# Altium footprint library SnapEDApcb.PcbLib: 1 footprints
Each footprint in its own frame and in the unit in brackets; x right, y up, seen from the top. Pads: shape width x height; smd on the part's side, far side on the other; paste and mask are expansions set on the pad; w line width, h text height; cw(c..) or ccw(c..) is an arc to the next point about the centre after c.
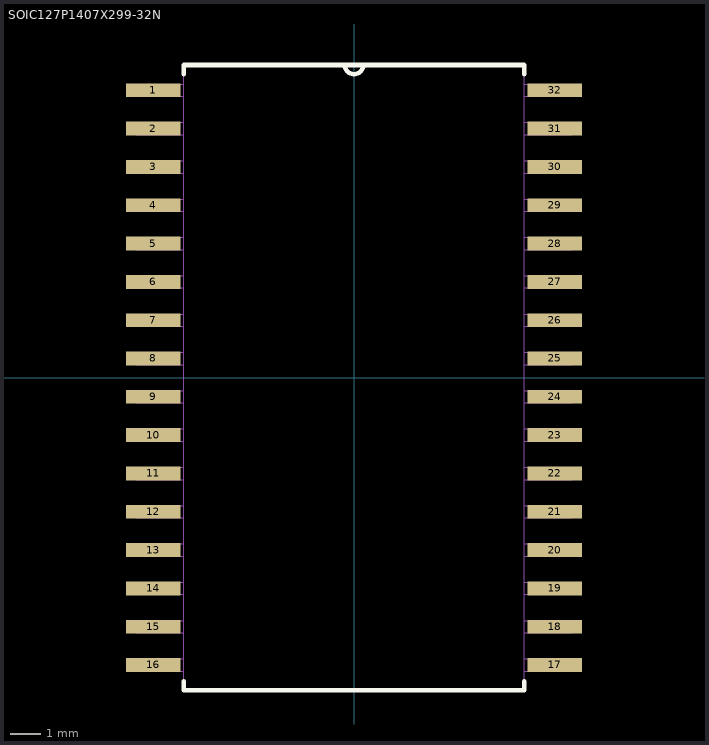
[diagram p0: the footprint, top view; thin cyan lines are the x and y axes]

## SOIC127P1407X299-32N [mil]
pads (32):
  rect 71x18 smd: 1(-262,375) 2(-262,325) 3(-262,275) 4(-262,225) 5(-262,175) 6(-262,125) 7(-262,75) 8(-262,25) 9(-262,-25) 10(-262,-75) 11(-262,-125) 12(-262,-175) 13(-262,-225) 14(-262,-275) 15(-262,-325) 16(-262,-375) 17(262,-375) 18(262,-325) 19(262,-275) 20(262,-225) 21(262,-175) 22(262,-125) 23(262,-75) 24(262,-25) 25(262,25) 26(262,75) 27(262,125) 28(262,175) 29(262,225) 30(262,275) 31(262,325) 32(262,375)
Top Overlay:
  lines w6: -222,-396 -222,-408 222,-408 222,-396 ; -222,396 -222,408 -12,408 ; 222,396 222,408 12,408 ; -12,408 ccw(c0,408) 12,408 ; -12,408 12,408
Mechanical 13:
  lines w0: -12,408 ccw(c0,408) 12,408 ; -12,408 12,408 ; -12,408 -222,408 -222,-408 222,-408 222,408 12,408 ; -284,-383 -284,-367 -222,-367 -222,-383 -284,-383 ; -284,-333 -284,-317 -222,-317 -222,-333 -284,-333 ; -284,-283 -284,-267 -222,-267 -222,-283 -284,-283 ; -284,-233 -284,-217 -222,-217 -222,-233 -284,-233 ; -284,-183 -284,-167 -222,-167 -222,-183 -284,-183 ; -284,-133 -284,-117 -222,-117 -222,-133 -284,-133 ; -284,-83 -284,-67 -222,-67 -222,-83 -284,-83 ; -284,-33 -284,-17 -222,-17 -222,-33 -284,-33 ; -284,17 -284,33 -222,33 -222,17 -284,17 ; -284,67 -284,83 -222,83 -222,67 -284,67 ; -284,117 -284,133 -222,133 -222,117 -284,117 ; -284,167 -284,183 -222,183 -222,167 -284,167 ; -284,217 -284,233 -222,233 -222,217 -284,217 ; -284,267 -284,283 -222,283 -222,267 -284,267 ; -284,317 -284,333 -222,333 -222,317 -284,317 ; -284,367 -284,383 -222,383 -222,367 -284,367 ; 222,-383 222,-367 284,-367 284,-383 222,-383 ; 222,-333 222,-317 284,-317 284,-333 222,-333 ; 222,-283 222,-267 284,-267 284,-283 222,-283 ; 222,-233 222,-217 284,-217 284,-233 222,-233 ; 222,-183 222,-167 284,-167 284,-183 222,-183 ; 222,-133 222,-117 284,-117 284,-133 222,-133 ; 222,-83 222,-67 284,-67 284,-83 222,-83 ; 222,-33 222,-17 284,-17 284,-33 222,-33 ; 222,17 222,33 284,33 284,17 222,17 ; 222,67 222,83 284,83 284,67 222,67 ; 222,117 222,133 284,133 284,117 222,117 ; 222,167 222,183 284,183 284,167 222,167 ; 222,217 222,233 284,233 284,217 222,217 ; 222,267 222,283 284,283 284,267 222,267 ; 222,317 222,333 284,333 284,317 222,317 ; 222,367 222,383 284,383 284,367 222,367